# Altium schematic symbol library Schlib_connector_pinheader.SchLib: 1 symbol
Pins are listed as number, name and electrical type; pins without a type are passive.

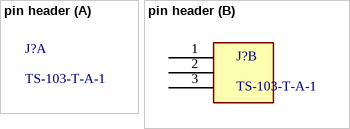
[diagram p0: symbol pin header]

## pin header
designator J?, comment TS-103-T-A-1
/ Pin Headers ROHS; manufacturer: Samtec; ComponentLink1Description: Datasheet; ComponentLink1URL: https://www.snapeda.com/parts/TS-103-T-A-1/Samtec/datasheet/; ComponentLink2Description: snapeda; ComponentLink2URL: https://www.snapeda.com/parts/TS-103-T-A-1/Samtec/view-part/?ref=search&t=pin%20header%20smd; manufacturer part number: TS-103-T-A-1; supplier: LCSC; supplier part number: C19164516
footprint CFP127P930X250-10N (CFP, 10-Leads, Body 7.36x5.08mm (max), Pitch 1.27mm, IPC Medium Density)
part B pins: 1, 2, 3